# Altium footprint library CAPC1220X060.PcbLib: 3 footprints
Each footprint in its own frame and in the unit in brackets; x right, y up, seen from the top. Pads: shape width x height; smd on the part's side, far side on the other; paste and mask are expansions set on the pad; w line width, h text height; cw(c..) or ccw(c..) is an arc to the next point about the centre after c.
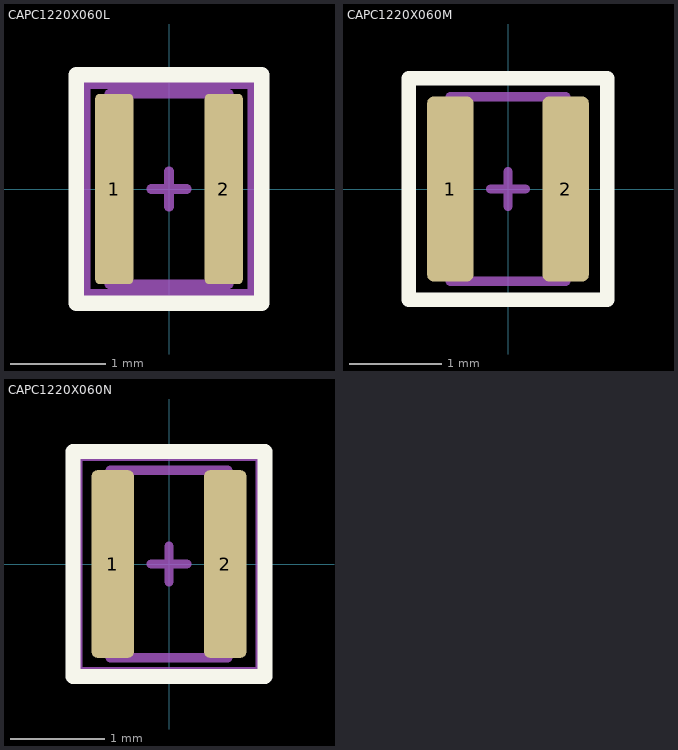
[diagram p0: the footprints below, top view; thin cyan lines are the x and y axes]

## CAPC1220X060L [mm] "Capacitors, Chip, Non-polarized"
height 0.7
pads (2):
  rrect25% 0.4x2 smd: 1(-0.575,0) 2(0.575,0)
Top Overlay:
  lines w0.16: -0.975,-1.2 0.975,-1.2 0.975,1.2 -0.975,1.2 -0.975,-1.2
Top Component Center:
  lines w0.1: -0.187,0 0.187,0 ; 0,-0.187 0,0.187
Top Courtyard:
  lines w0.1: -0.875,-1.1 0.875,-1.1 0.875,1.1 -0.875,1.1 -0.875,-1.1
Top Assembly:
  lines w0.1: -0.625,-1 0.625,-1 0.625,1 -0.625,1 -0.625,-1
  text ".Designator" at 0,0 h1
3D body "CAPC1220X060L.STEP": height 0.6, standoff 0, extent -0.625,-1 0.625,1

## CAPC1220X060M [mm] "Capacitors, Chip, Non-polarized"
height 0.7
pads (2):
  rrect25% 0.5x2 smd: 1(-0.625,0) 2(0.625,0)
Top Overlay:
  lines w0.16: -1.075,-1.2 1.075,-1.2 1.075,1.2 -1.075,1.2 -1.075,-1.2
Top Component Center:
  lines w0.1: -0.187,0 0.187,0 ; 0,-0.187 0,0.187
Top Courtyard:
  lines w0.1: -1.075,-1.2 1.075,-1.2 1.075,1.2 -1.075,1.2 -1.075,-1.2
Top Assembly:
  lines w0.1: -0.625,-1 0.625,-1 0.625,1 -0.625,1 -0.625,-1
  text ".Designator" at 0,0 h1
3D body "CAPC1220X060M.STEP": height 0.6, standoff 0, extent -0.625,-1 0.625,1

## CAPC1220X060N [mm] "Capacitors, Chip, Non-polarized"
height 0.7
pads (2):
  rrect25% 0.45x2 smd: 1(-0.6,0) 2(0.6,0)
Top Overlay:
  lines w0.16: -1.025,-1.2 1.025,-1.2 1.025,1.2 -1.025,1.2 -1.025,-1.2
Top Component Center:
  lines w0.1: -0.187,0 0.187,0 ; 0,-0.187 0,0.187
Top Courtyard:
  lines w0.1: -0.975,-1.15 0.975,-1.15 0.975,1.15 -0.975,1.15 -0.975,-1.15
Top Assembly:
  lines w0.1: -0.625,-1 0.625,-1 0.625,1 -0.625,1 -0.625,-1
  text ".Designator" at 0,0 h1
3D body "CAPC1220X060N.STEP": height 0.6, standoff 0, extent -0.625,-1 0.625,1